# EAGLE library part 620106131822 (library Wire-to-Board (rev18a))
WR-WTB 2.00mm SMT Male Horizontal Shrouded Header, 6 Pins=>Code : Con_WTB_2.00_PCB_SMT_620106131822 <http://katalog.we-online.de/media/thumbs2/eican/thb_Con_WTB_2.00_PCB_SMT_6201xx131822_pf2.jpg> Details see: http://katalog.we-online.de/en/em/WTB_2_00_SMT_MALE_HORIZONTAL_SHROUDED_HEADER_6201XX131822 Created 2014-06-05, Karrer Zheng 2014 (C) Würth Elektronik
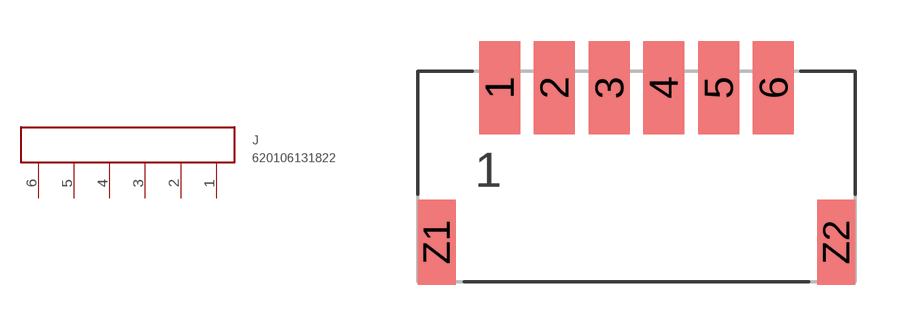
[diagram p40: symbol with the pads of 620106131822; footprint 620106131822]

Designator prefix J

## 620106131822  [620106131822]
1  6  pas
2  5  pas
3  4  pas
4  3  pas
5  2  pas
6  1  pas

## Footprint 620106131822 (pad centres in mm)
WR-WTB 2.00mm SMT Male Horizontal Shrouded Header, 6 Pins
smd 1.5 x 3.4: 1 -5,0; 2 -3,0; 3 -1,0; 4 1,0; 5 3,0; 6 5,0
smd 1.4 x 3.1: Z1 -7.3,-5.65; Z2 7.3,-5.65